# Altium schematic symbol library MyLibs_TVS.SchLib: 3 symbols
Pins are listed as number, name and electrical type; pins without a type are passive.

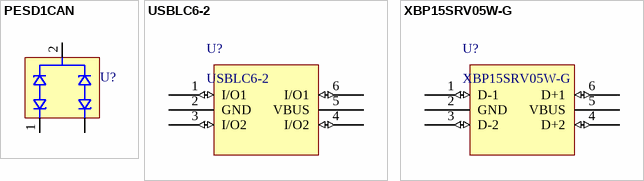
[diagram p0: symbols PESD1CAN to XBP15SRV05W-G]

## PESD1CAN
designator U?  (value not drawn)
TVS DIODE 24V 70V SOT23; Manufacturer: Nexperia USA Inc.; Manufacturer Part Number: PESD1CAN; Mount Type: SMT
footprint NXP SOT-23-3 TO-236AB (SOT23, 3-Leads, Body 2.90x2.40mm, Pitch 0.95mm, IPC Medium Density)
pins: 1 C, 2 Common, 3 C

## USBLC6-2
designator U?
Very low capacitance ESD protection. Packages: SOT23-6L, SOT-666
pins: 1 I/O1 (io), 2 GND (power), 3 I/O2 (io), 4 I/O2 (io), 5 VBUS (power), 6 I/O1 (io)

## XBP15SRV05W-G
designator U?
Low Capacitance TVS Diode Array - SOT26P
pins: 1 D-1 (io), 2 GND (power), 3 D-2 (io), 4 D+2 (io), 5 VBUS (power), 6 D+1 (io)